# EAGLE library part MRB_S_20002 (library joep-custom)
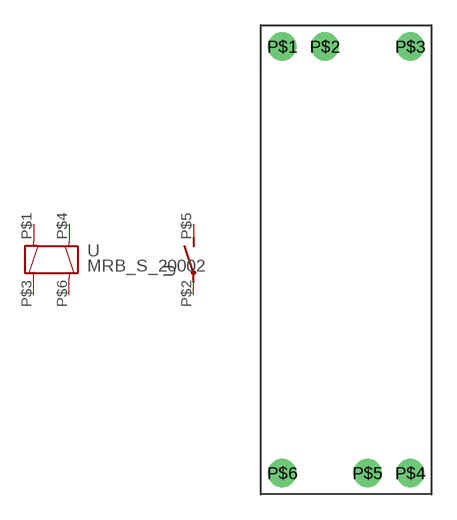
[diagram p4: symbol with the pads of MRB_S_20002; footprint MRB_S_20002]

Designator prefix -

## MRB_S_20002  [MRB_S_20002]
P$1  1  pas
P$2  P  pas
P$3  2  pas
P$4  3  pas
P$5  S  pas
P$6  4  pas

## Footprint MRB_S_20002 (pad centres in mm)
drill 0.8 pad 1.676 round: P$1 -2.54,7.62; P$2 0,7.62; P$3 5.08,7.62; P$4 5.08,-17.78; P$5 2.54,-17.78; P$6 -2.54,-17.78